# Altium footprint library Turbine_Footprints.PcbLib: 26 footprints (part 1 of 2)
Each footprint in its own frame and in the unit in brackets; x right, y up, seen from the top. Pads: shape width x height; smd on the part's side, far side on the other; paste and mask are expansions set on the pad; w line width, h text height; cw(c..) or ccw(c..) is an arc to the next point about the centre after c.
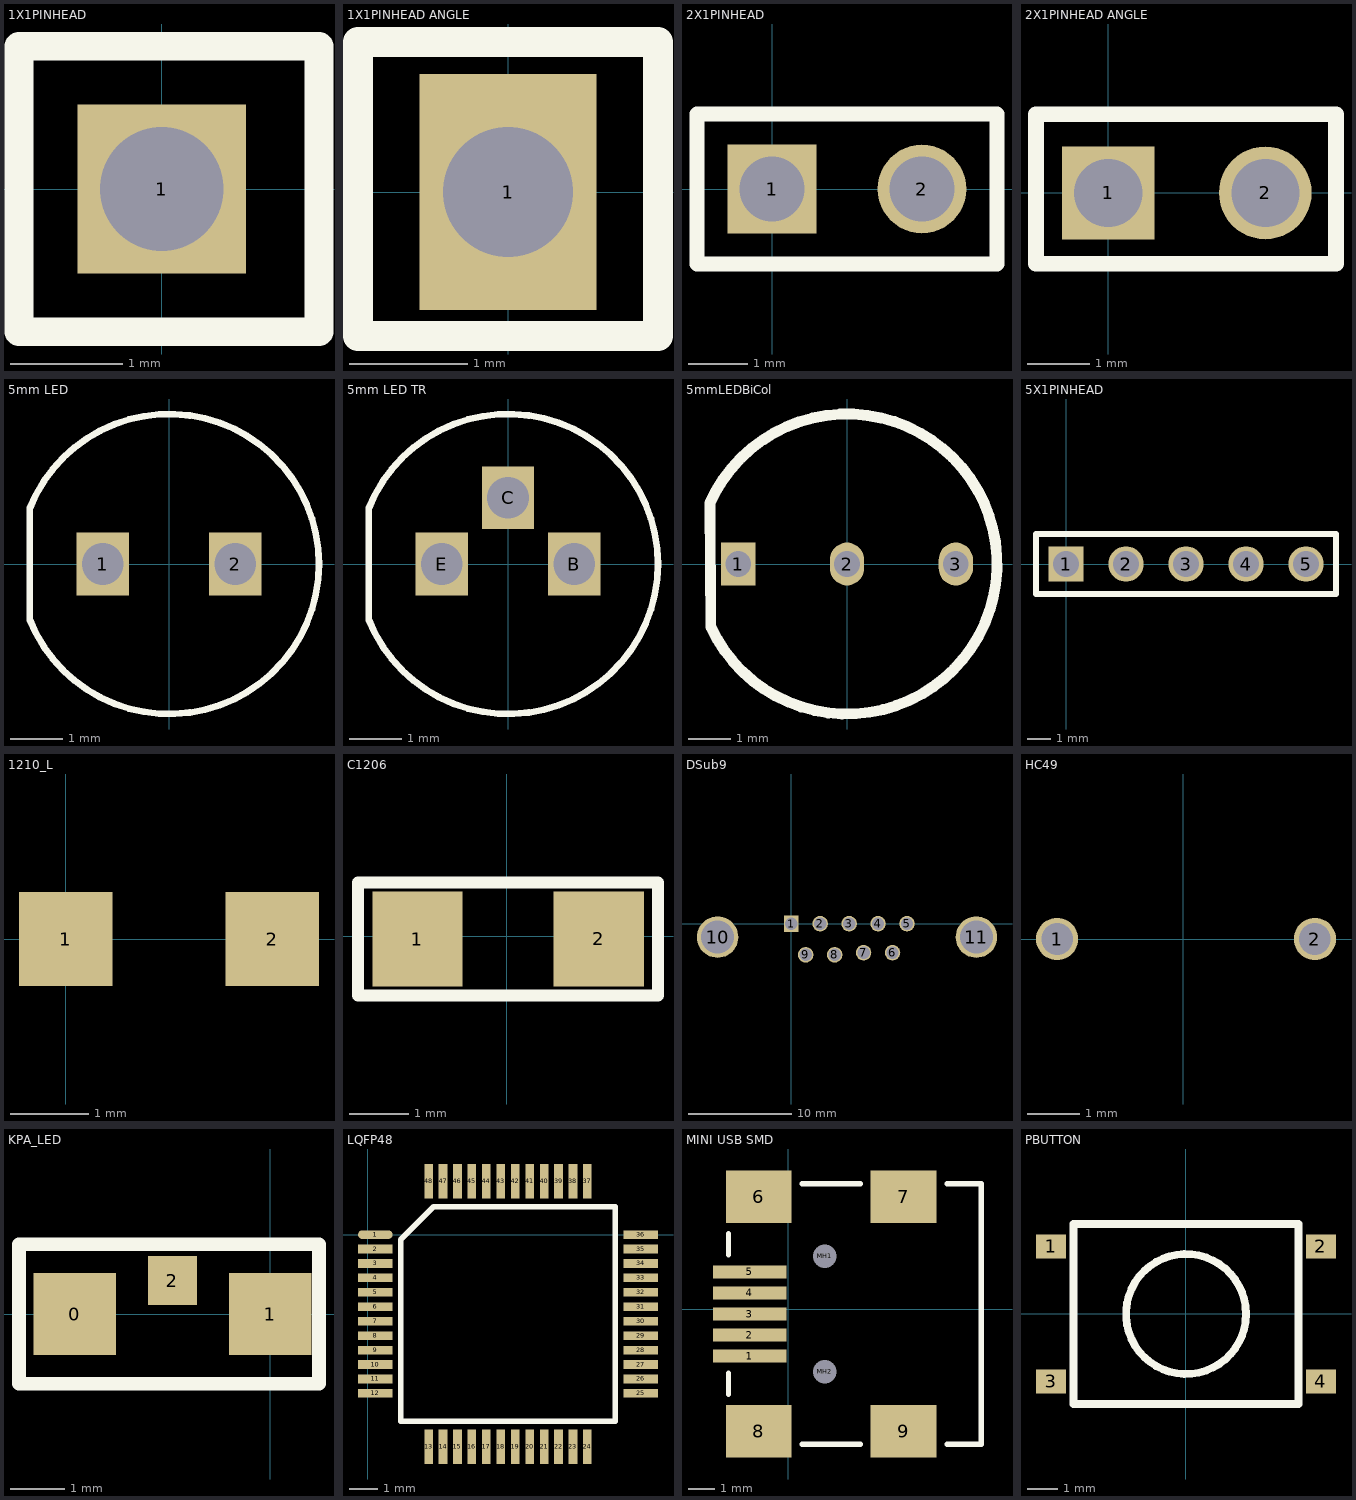
[diagram p0: the footprints below, top view; thin cyan lines are the x and y axes]

## 1X1PINHEAD [mm]
pads (1):
  rect 1.5x1.5 hole 1.1: 1(0,0)
Top Overlay:
  lines w0.254: -1.27,-1.27 -1.27,1.016 -1.27,1.27 1.397,1.27 1.397,-1.27 -1.27,-1.27
3D body: height 8.19, standoff -2.61, extent -1.27,-1.27 1.27,1.27

## 1X1PINHEAD ANGLE [mm]
pads (1):
  rect 1.5x2 hole 1.1: 1(0,0)
Top Overlay:
  lines w0.254: -1.27,-1.219 -1.27,1.016 -1.27,1.27 1.27,1.27 1.27,-1.219 -1.27,-1.219
3D body: height 2.77, standoff -2.77, extent -1.321,-10.064 1.219,0.296

## 2X1PINHEAD [mm]
pads (2):
  rect 1.5x1.5 hole 1.1: 1(0,0)
  round 1.5 hole 1.1: 2(2.54,0)
Top Overlay:
  lines w0.254: -1.27,-1.27 -1.27,1.016 -1.27,1.27 3.81,1.27 3.81,-1.27 -1.27,-1.27
3D body: height 8.19, standoff -2.61, extent 1.27,-1.27 3.81,1.27
3D body: height 8.19, standoff -2.61, extent -1.27,-1.27 1.27,1.27

## 2X1PINHEAD ANGLE [mm]
pads (2):
  rect 1.5x1.5 hole 1.1: 1(0,0)
  round 1.5 hole 1.1: 2(2.54,0)
Top Overlay:
  lines w0.254: -1.168,-1.143 3.683,-1.143 3.683,1.27 -1.168,1.27 -1.168,0.61 -1.168,-1.143
3D body: height 2.77, standoff -2.77, extent -1.27,-10.064 1.27,0.296
3D body: height 2.77, standoff -2.77, extent 1.27,-10.064 3.81,0.296

## 5mm LED [mm]
pads (2):
  rect 1x1.2 hole 0.8: 1(-1.27,0) 2(1.27,0)
Top Overlay:
  lines w0.127: -2.669,-1.068 ccw(c0,0) -2.669,1.068 -2.669,-1.068
3D body: height 1.75, standoff -6.44, extent -2.502,-9.88 2.947,0.13

## 5mm LED TR [mm]
pads (3):
  rect 1x1.2 hole 0.8: B(1.27,0) C(0,1.27) E(-1.27,0)
Top Overlay:
  lines w0.127: -2.669,-1.068 ccw(c0,0) -2.669,1.068 -2.669,-1.068
3D body: height 0.25, standoff -7.95, extent -2.502,-9.372 2.947,1.557

## 5mmLEDBiCol [mm]
pads (3):
  rect 0.8x1 hole 0.6: 1(-2.54,0)
  oval 0.8x1 hole 0.6: 2(0,0) 3(2.54,0)
Top Overlay:
  lines w0.254: -3.198,1.421 cw(c0,0) -3.178,-1.467 -3.198,1.421
3D body: height 11.61, standoff -1.83, extent -2.794,-2.92 2.946,2.972

## 5X1PINHEAD [mm]
pads (6):
  rect 1.5x1.5 hole 1.1: 1(0,0)
  round 1.5 hole 1.1: 2(2.54,0) 2(2.54,0) 3(5.08,0) 4(7.62,0) 5(10.16,0)
Top Overlay:
  lines w0.254: -1.27,-1.27 -1.27,1.016 -1.27,1.27 11.43,1.27 11.43,-1.27 -1.27,-1.27
3D body: height 8.19, standoff -2.61, extent 1.27,-1.27 3.81,1.27
3D body: height 8.19, standoff -2.61, extent -1.27,-1.27 1.27,1.27
3D body: height 8.19, standoff -2.61, extent 3.81,-1.27 6.35,1.27
3D body: height 8.19, standoff -2.61, extent 6.35,-1.27 8.89,1.27
3D body: height 8.19, standoff -2.61, extent 8.89,-1.27 11.43,1.27

## 1210_L [mm]
height 2.4
pads (2):
  rect 1.2x1.2 smd: 1(0,0) 2(2.65,0)
3D body: height 2.4, standoff 0, extent -0.49,-1.35 3.09,1.35

## C1206 [mm]
pads (2):
  rect 1.52x1.6 smd: 1(-1.5,-0.05) 2(1.55,-0.05)
Top Overlay:
  lines w0.2: -2.5,-1 -2.5,-0.35 -2.5,0.9 2.55,0.9 2.55,-1 -2.5,-1
3D body: height 1, standoff 0, extent -1.55,-0.85 1.65,0.75

## DSub9 [mm]
pads (11):
  rect 1.4x1.6 hole 1.2: 1(0,0)
  round 1.5 hole 1.2: 2(2.8,0) 3(5.6,0) 4(8.4,0) 5(11.2,0) 6(9.8,-2.8) 7(7,-2.8) 8(4.2,-3) 9(1.4,-3)
  round 4 hole 3.2: 10(-7.1,-1.3) 11(17.9,-1.3)
3D body: height 12.47, standoff -4.4, extent -9.805,-16.8 21.005,1.5

## HC49 [mm]
height 0.102
pads (2):
  round 0.8 hole 0.6: 1(-2.4,0) 2(2.5,0)
3D body: height 3.7, standoff -1.89, extent -5.612,-2.35 5.725,2.3

## KPA_LED [mm]
pads (3):
  rect 1.5x1.5 smd: 0(-3.556,0) 1(0,0)
  rect 0.9x0.9 smd: 2(-1.778,0.61)
Top Overlay:
  lines w0.254: -4.572,-1.27 0.889,-1.27 0.889,1.27 -4.572,1.27 -4.572,-1.27
3D body: height 1, standoff -0.13, extent -4.254,-1.365 0.746,1.235

## LQFP48 [mm]
pads (48):
  oval 1.2x0.3 smd: 1(0.254,0)
  rect 1.2x0.3 smd: 2(0.254,-0.5) 3(0.254,-1) 4(0.254,-1.5) 5(0.254,-2) 6(0.254,-2.5) 7(0.254,-3) 8(0.254,-3.5) 9(0.254,-4) 10(0.254,-4.5) 11(0.254,-5) 12(0.254,-5.5) 25(9.446,-5.5) 26(9.446,-5) 27(9.446,-4.5) 28(9.446,-4) 29(9.446,-3.5) 30(9.446,-3) 31(9.446,-2.5) 32(9.446,-2) 33(9.446,-1.5) 34(9.446,-1) 35(9.446,-0.5) 36(9.446,0)
  rect 0.3x1.2 smd: 13(2.1,-7.346) 14(2.6,-7.346) 15(3.1,-7.346) 16(3.6,-7.346) 17(4.1,-7.346) 18(4.6,-7.346) 19(5.1,-7.346) 20(5.6,-7.346) 21(6.1,-7.346) 22(6.6,-7.346) 23(7.1,-7.346) 24(7.6,-7.346) 37(7.6,1.846) 38(7.1,1.846) 39(6.6,1.846) 40(6.1,1.846) 41(5.6,1.846) 42(5.1,1.846) 43(4.6,1.846) 44(4.1,1.846) 45(3.6,1.846) 46(3.1,1.846) 47(2.6,1.846) 48(2.1,1.846)
Top Overlay:
  lines w0.2: 1.135,-6.465 1.135,-0.17 2.27,0.965 8.565,0.965 8.565,-6.465 1.135,-6.465
3D body: height 1.55, standoff -0.02, extent 0.44,-7.18 9.212,1.592

## MINI USB SMD [mm]
pads (11):
  rect 2.8x0.5 smd: 1(-1.471,-1.778) 2(-1.471,-0.978) 3(-1.471,-0.178) 4(-1.471,0.622) 5(-1.471,1.422)
  rect 2.5x2 smd: 6(-1.121,4.272) 7(4.379,4.272) 8(-1.121,-4.628) 9(4.379,-4.628)
  round 0.6 hole 0.9 unplated: MH1(1.379,2.022) MH2(1.379,-2.378)
Top Overlay:
  lines w0.2: -2.271,-3.228 -2.271,-2.428 ; -2.271,2.072 -2.271,2.872 ; 0.529,-5.128 2.729,-5.128 ; 0.529,4.772 2.729,4.772 ; 6.029,-5.128 7.329,-5.128 7.329,4.772 6.029,4.772
3D body: height 4.14, standoff -0.95, extent -1.834,-5.204 7.366,4.696

## PBUTTON [mm]
height 4
pads (4):
  rect 1x0.8 smd: 1(-4.5,2.25) 2(4.5,2.25) 3(-4.5,-2.25) 4(4.5,-2.25)
Top Overlay:
  circle w0.254: c0,0 r2
  lines w0.254: -3.75,-3 3.75,-3 3.75,3 -3.75,3 -3.75,-3
3D body: height 4.3, standoff 0, extent -4.05,-3.125 3.95,3.375